# EAGLE library part MAX30101EFD (library MAX30101EFD)
MAX30101 High-Sensitivity Pulse Oximeter and Heart-Rate Sensor The MAX30101 is an integrated pulse oximetry and heart-rate monitor module. It includes internal LEDs, photodetectors, optical elements, and low-noise electronics with ambient light rejection. The MAX30101 provides a complete system solution to ease the design-in process for mobile and wearable devices. The MAX30101 operates on a single 1.8V power supply and a separate 5.0V power supply for the internal LEDs. Communication is through a standard I2C-compatible interface. The module can be shut down through software with zero standby current, allowing the power rails to remain powered at all times
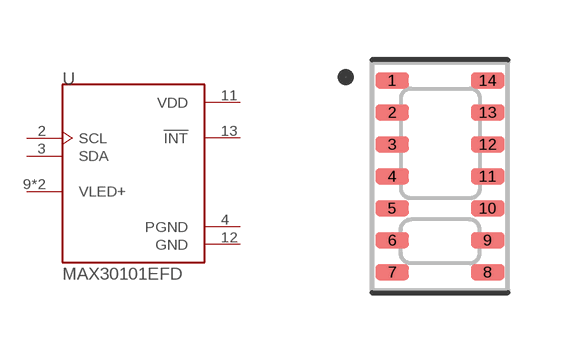
[diagram p0: symbol with the pads of PSON80P560X330X165-14N; footprint PSON80P560X330X165-14N]

Designator prefix U

## MAX30101EFD (Description: Oximeter/Heart Rate Sensor I²C Output; Digi-Key_Part_Number: MAX30101EFD+-ND; Digi-Key_Purchase_URL: https://www.digikey.com/product-detail/en/maxim-integrated/MAX30101EFD-/MAX30101EFD--ND/6123035?utm_source=snapeda&utm_medium=aggregator&utm_campaign=symbol; MF: Maxim Integrated; MP: MAX30101EFD+; Package: OLGA-14 Maxim)  [PSON80P560X330X165-14N]
2  SCL  in
3  SDA
4  PGND  pwr
9  VLED+  pas
10  VLED+  pas
11  VDD  pwr
12  GND  pwr
13  !INT  out

## Footprint PSON80P560X330X165-14N (pad centres in mm)
smd 0.84 x 0.4: 1 -1.195,2.4; 2 -1.195,1.6; 3 -1.195,0.8; 4 -1.195,0; 5 -1.195,-0.8; 6 -1.195,-1.6; 7 -1.195,-2.4; 8 1.195,-2.4; 9 1.195,-1.6; 10 1.195,-0.8; 11 1.195,0; 12 1.195,0.8; 13 1.195,1.6; 14 1.195,2.4